# Altium schematic symbol library MPX-104K275VAC-C-D2.SchLib: 1 symbol
Pins are listed as number, name and electrical type; pins without a type are passive.

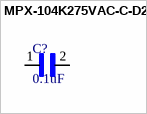
[diagram p0: symbol MPX-104K275VAC-C-D2]

## MPX-104K275VAC-C-D2
designator C?, comment 0.1uF
0.1uF ±10% -40℃~+110℃ X2 275VAC Radial Leaded,P=15mm Suppression Capacitors ROHS; Manufacturer: CORETONG; Mfr. Part #: MPX-104K275VAC-C-D2; LCSC Part #: C3249976; Package: Radial Leaded,P=15mm; Datasheet: https://datasheet.lcsc.com/lcsc/2207051802_CORETONG-MPX-104K275VAC-C-D2_C3249976.pdf; Value: 0.1uF
footprint MPX-104K275VAC-C-D2
pins: 1, 2